# Altium schematic symbol library InkJetFin Symbol Lib.SchLib: 15 symbols
Pins are listed as number, name and electrical type; pins without a type are passive.

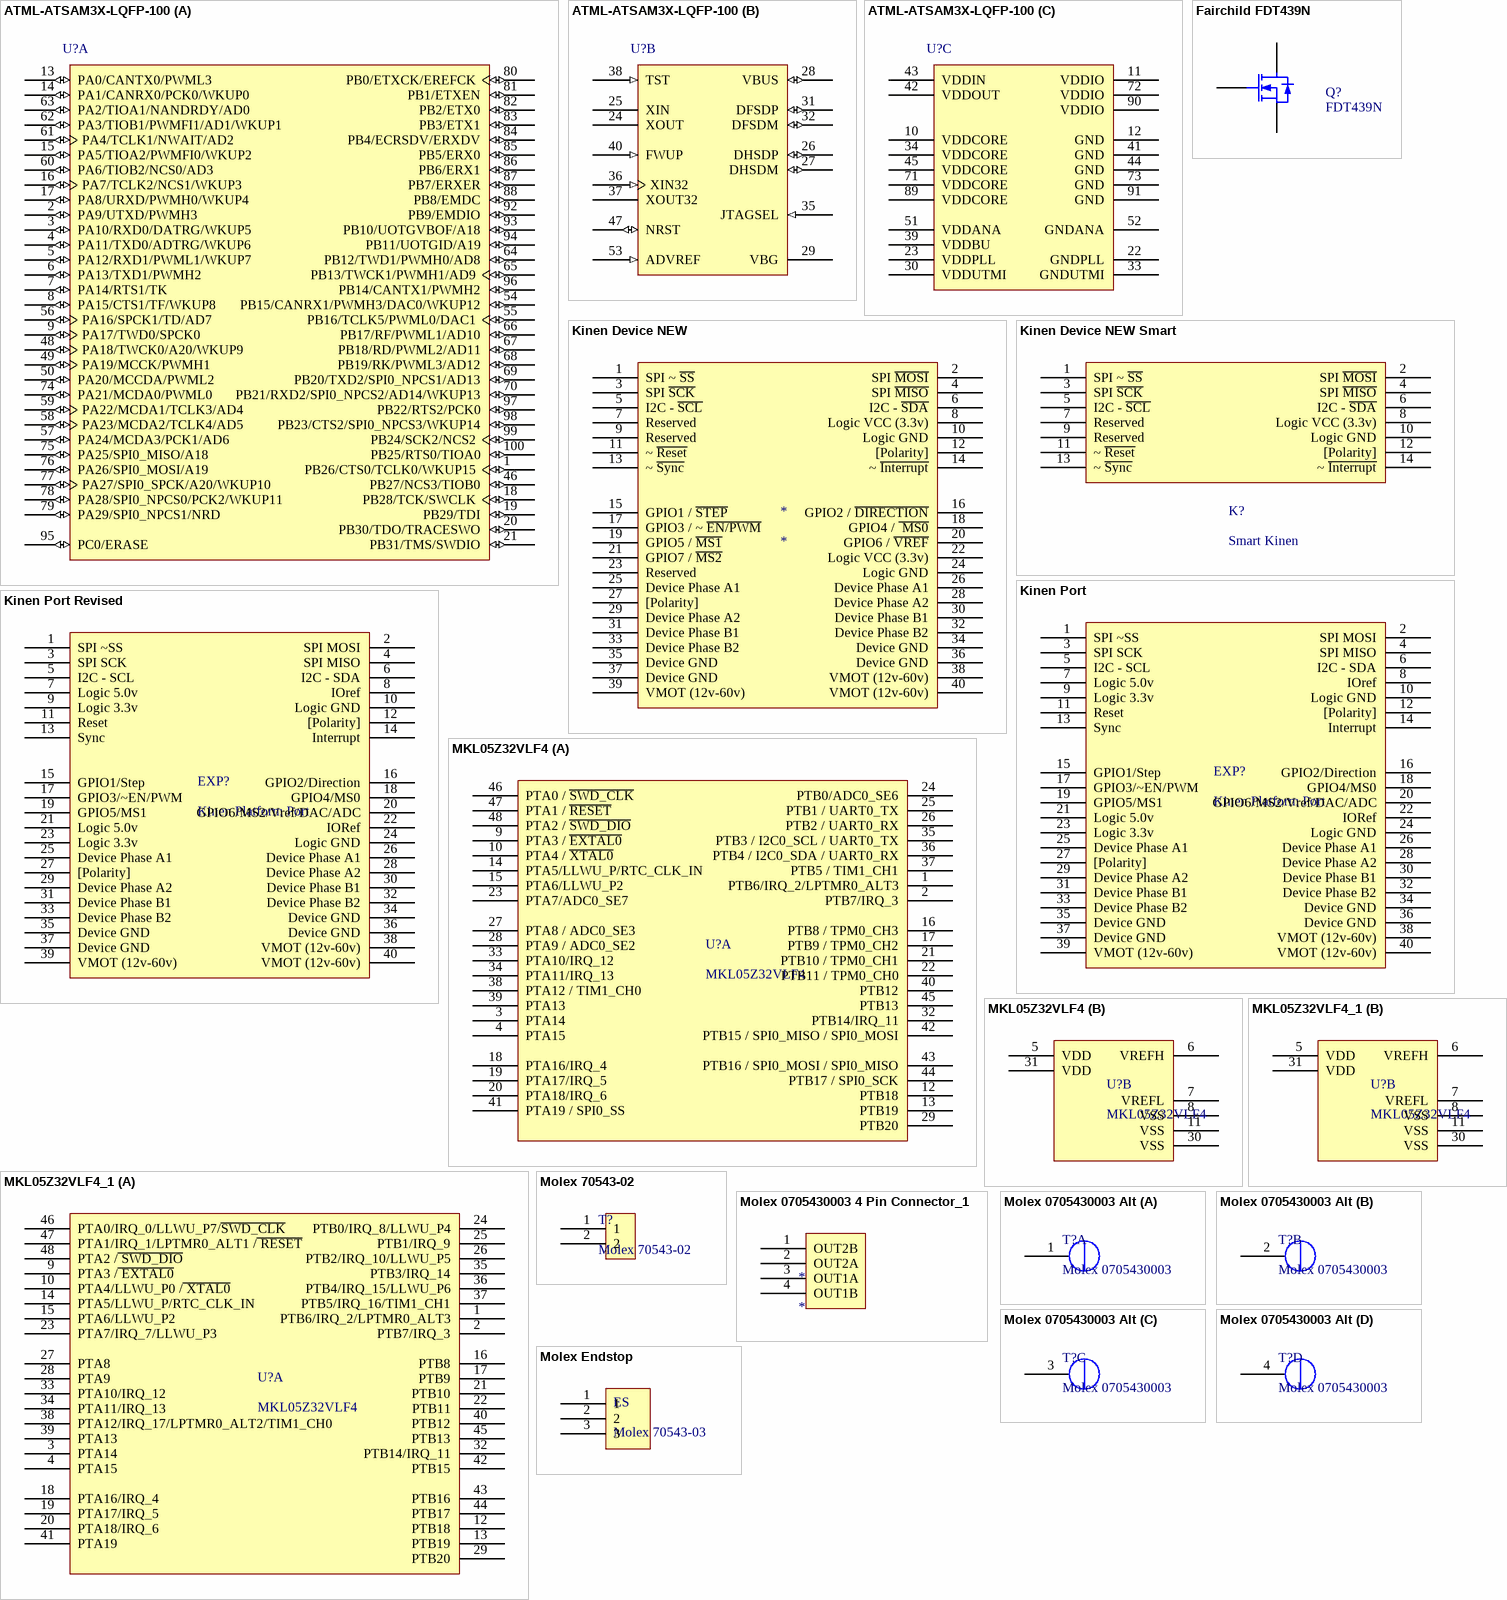
[diagram p0: symbols ATML-ATSAM3X-LQFP-100 to Molex Endstop]

## ATML-ATSAM3X-LQFP-100
designator U?
footprint LQFP100_L (Thin QFP, 100-Leads, Body 14x14mm, Pitch 0.5mm, IPC High Density)
footprint LQFP100_M (Thin QFP, 100-Leads, Body 14x14mm, Pitch 0.5mm, IPC Low Density)
footprint LQFP100_N (Thin QFP, 100-Leads, Body 14x14mm, Pitch 0.5mm, IPC Medium Density)
part A pins: 1 PB26/CTS0/TCLK0/WKUP15 (io), 2 PA9/UTXD/PWMH3 (io), 3 PA10/RXD0/DATRG/WKUP5 (io), 4 PA11/TXD0/ADTRG/WKUP6 (io), 5 PA12/RXD1/PWML1/WKUP7 (io), 6 PA13/TXD1/PWMH2 (io), 7 PA14/RTS1/TK (io), 8 PA15/CTS1/TF/WKUP8 (io), 9 PA17/TWD0/SPCK0 (io), 13 PA0/CANTX0/PWML3 (io), 14 PA1/CANRX0/PCK0/WKUP0 (io), 15 PA5/TIOA2/PWMFI0/WKUP2 (io), 16 PA7/TCLK2/NCS1/WKUP3 (io), 17 PA8/URXD/PWMH0/WKUP4 (io), 18 PB28/TCK/SWCLK (io), 19 PB29/TDI (io), 20 PB30/TDO/TRACESWO (io), 21 PB31/TMS/SWDIO (io), 46 PB27/NCS3/TIOB0 (io), 48 PA18/TWCK0/A20/WKUP9 (io), 49 PA19/MCCK/PWMH1 (io), 50 PA20/MCCDA/PWML2 (io), 54 PB15/CANRX1/PWMH3/DAC0/WKUP12 (io), 55 PB16/TCLK5/PWML0/DAC1 (io), 56 PA16/SPCK1/TD/AD7 (io), 57 PA24/MCDA3/PCK1/AD6 (io), 58 PA23/MCDA2/TCLK4/AD5 (io), 59 PA22/MCDA1/TCLK3/AD4 (io), 60 PA6/TIOB2/NCS0/AD3 (io), 61 PA4/TCLK1/NWAIT/AD2 (io), 62 PA3/TIOB1/PWMFI1/AD1/WKUP1 (io), 63 PA2/TIOA1/NANDRDY/AD0 (io), 64 PB12/TWD1/PWMH0/AD8 (io), 65 PB13/TWCK1/PWMH1/AD9 (io), 66 PB17/RF/PWML1/AD10 (io), 67 PB18/RD/PWML2/AD11 (io), 68 PB19/RK/PWML3/AD12 (io), 69 PB20/TXD2/SPI0_NPCS1/AD13 (io), 70 PB21/RXD2/SPI0_NPCS2/AD14/WKUP13 (io), 74 PA21/MCDA0/PWML0 (io), 75 PA25/SPI0_MISO/A18 (io), 76 PA26/SPI0_MOSI/A19 (io), 77 PA27/SPI0_SPCK/A20/WKUP10 (io), 78 PA28/SPI0_NPCS0/PCK2/WKUP11 (io), 79 PA29/SPI0_NPCS1/NRD (io), 80 PB0/ETXCK/EREFCK (io), 81 PB1/ETXEN (io), 82 PB2/ETX0 (io), 83 PB3/ETX1 (io), 84 PB4/ECRSDV/ERXDV (io), 85 PB5/ERX0 (io), 86 PB6/ERX1 (io), 87 PB7/ERXER (io), 88 PB8/EMDC (io), 92 PB9/EMDIO (io), 93 PB10/UOTGVBOF/A18 (io), 94 PB11/UOTGID/A19 (io), 95 PC0/ERASE (io), 96 PB14/CANTX1/PWMH2 (io), 97 PB22/RTS2/PCK0 (io), 98 PB23/CTS2/SPI0_NPCS3/WKUP14 (io), 99 PB24/SCK2/NCS2 (io), 100 PB25/RTS0/TIOA0 (io)
part B pins: 24 XOUT "Main Oscillator Output", 25 XIN "Main Oscillator Input", 26 DHSDP (io) "USB High Speed Data +", 27 DHSDM (io) "USB High Speed Data -", 28 VBUS (io) "USB Bus Power Measurement Mini Host/Device", 29 VBG "Bias Voltage Reference", 31 DFSDP (io) "USB Full Speed Data +", 32 DFSDM (io) "USB Full Speed Data -", 35 JTAGSEL (in) "JTAG Selection", 36 XIN32 (in) "Slow Clock Oscillator Input", 37 XOUT32 "Slow Clock Oscillator Output", 38 TST (in) "Test Mode Select", 40 FWUP (in) "Force Wake-up Input", 47 NRST (io) "Microcontroller Reset", 53 ADVREF (in) "ADC and DAC Reference"
part C pins: 10 VDDCORE (power) "Core Chip Power Supply", 11 VDDIO (power) "Peripherals I/O Lines Power Supply", 12 GND (power) "Ground", 22 GNDPLL (power) "PLL A, UPLL and Oscillator Ground", 23 VDDPLL (power) "PLL A, UPLL and Oscillator Power Supply", 30 VDDUTMI (power) "USB UTMI+ Interface Power Supply", 33 GNDUTMI (power) "USB UTMI+ Interface Ground", 34 VDDCORE (power) "Core Chip Power Supply", 39 VDDBU (power) "Backup I/O Lines Power Supply", 41 GND (power) "Ground", 42 VDDOUT (power) "Voltage Regulator Output", 43 VDDIN (power) "Voltage Regulator, ADC and DAC Power Supply", 44 GND (power) "Ground", 45 VDDCORE (power) "Core Chip Power Supply", 51 VDDANA (power) "ADC and DAC Analog Power Supply", 52 GNDANA (power) "ADC and DAC Analog Ground", 71 VDDCORE (power) "Core Chip Power Supply", 72 VDDIO (power) "Peripherals I/O Lines Power Supply", 73 GND (power) "Ground", 89 VDDCORE (power) "Core Chip Power Supply", 90 VDDIO (power) "Peripherals I/O Lines Power Supply", 91 GND (power) "Ground"

## Fairchild FDT439N
designator Q?, comment FDT439N
N-Channel MOSFET; Published: 8-Jun-2000; LatestRevisionDate: 17-Jul-2002; LatestRevisionNote: Re-released for DXP Platform.; PackageVersion: 1995/1996; PackageReference: E3; Publisher: Altium Limited; PackageDescription: TO, Flat Index; 3 In-Line, Axial Leads; Body Dia. 4.6mm; Lead Dia. 0.5 mm (max)
simulation model NMOS (MOSFET-N)
footprint Fairchild FDT439N (SOT223, 4-Leads, Body 6.60x7.08mm (avg), Pitch 2.30mm, IPC Medium Density)
pins: 1 G, 2 D, 3 S, 4 D hidden to 2

## Kinen Device NEW
designator *
footprint Kinen Port - Device (Synthetos Kinen Expansion Port Socket)
pins: 1 SPI ~ ~{SS}, 2 SPI ~{MOSI}, 3 SPI ~{SCK}, 4 SPI ~{MISO}, 5 I2C - ~{SCL}, 6 I2C - ~{SDA}, 7 Reserved, 8 Logic VCC (3.3v), 9 Reserved, 10 Logic GND, 11 ~ ~{Reset}, 12 [Polarity], 13 ~ ~{Sync}, 14 ~ ~{Interrupt}, 15 GPIO1 / ~{STEP}, 16 GPIO2 / ~{DIRECTION}, 17 GPIO3 / ~ ~{EN/PWM}, 18 GPIO4 / ~{ MS0}, 19 GPIO5 / ~{MS1}, 20 GPIO6 / ~{VREF}, 21 GPIO7 / ~{MS2}, 22 Logic VCC (3.3v), 23 Reserved, 24 Logic GND, 25 Device Phase A1, 26 Device Phase A1, 27 [Polarity], 28 Device Phase A2, 29 Device Phase A2, 30 Device Phase B1, 31 Device Phase B1, 32 Device Phase B2, 33 Device Phase B2, 34 Device GND, 35 Device GND, 36 Device GND, 37 Device GND, 38 VMOT (12v-60v), 39 VMOT (12v-60v), 40 VMOT (12v-60v)

## Kinen Device NEW Smart
designator K?, comment Smart Kinen
footprint Kinen Port - Device (Synthetos Kinen Expansion Port Socket)
pins: 1 SPI ~ ~{SS}, 2 SPI ~{MOSI}, 3 SPI ~{SCK}, 4 SPI ~{MISO}, 5 I2C - ~{SCL}, 6 I2C - ~{SDA}, 7 Reserved, 8 Logic VCC (3.3v), 9 Reserved, 10 Logic GND, 11 ~ ~{Reset}, 12 [Polarity], 13 ~ ~{Sync}, 14 ~ ~{Interrupt}

## Kinen Port
designator EXP?, comment Kinen Platform Port
footprint Kinen Port (Synthetos Kinen Expansion Port Socket)
pins: 1 SPI ~SS, 2 SPI MOSI, 3 SPI SCK, 4 SPI MISO, 5 I2C - SCL, 6 I2C - SDA, 7 Logic 5.0v, 8 IOref, 9 Logic 3.3v, 10 Logic GND, 11 Reset, 12 [Polarity], 13 Sync, 14 Interrupt, 15 GPIO1/Step, 16 GPIO2/Direction, 17 GPIO3/~EN/PWM, 18 GPIO4/MS0, 19 GPIO5/MS1, 20 GPIO6/MS2/Vref/DAC/ADC, 21 Logic 5.0v, 22 IORef, 23 Logic 3.3v, 24 Logic GND, 25 Device Phase A1, 26 Device Phase A1, 27 [Polarity], 28 Device Phase A2, 29 Device Phase A2, 30 Device Phase B1, 31 Device Phase B1, 32 Device Phase B2, 33 Device Phase B2, 34 Device GND, 35 Device GND, 36 Device GND, 37 Device GND, 38 VMOT (12v-60v), 39 VMOT (12v-60v), 40 VMOT (12v-60v)

## Kinen Port Revised
designator EXP?, comment Kinen Platform Port
footprint Kinen Port (Synthetos Kinen Expansion Port Socket)
pins: 1 SPI ~SS, 2 SPI MOSI, 3 SPI SCK, 4 SPI MISO, 5 I2C - SCL, 6 I2C - SDA, 7 Logic 5.0v, 8 IOref, 9 Logic 3.3v, 10 Logic GND, 11 Reset, 12 [Polarity], 13 Sync, 14 Interrupt, 15 GPIO1/Step, 16 GPIO2/Direction, 17 GPIO3/~EN/PWM, 18 GPIO4/MS0, 19 GPIO5/MS1, 20 GPIO6/MS2/Vref/DAC/ADC, 21 Logic 5.0v, 22 IORef, 23 Logic 3.3v, 24 Logic GND, 25 Device Phase A1, 26 Device Phase A1, 27 [Polarity], 28 Device Phase A2, 29 Device Phase A2, 30 Device Phase B1, 31 Device Phase B1, 32 Device Phase B2, 33 Device Phase B2, 34 Device GND, 35 Device GND, 36 Device GND, 37 Device GND, 38 VMOT (12v-60v), 39 VMOT (12v-60v), 40 VMOT (12v-60v)

## MKL05Z32VLF4
designator U?
ARM Cortex M0+
footprint MKL05Z32VLF4 (TSQFP, 48-Leads, Body 7.00x7.00mm, Pitch 0.50mm, IPC Medium Density)
part A pins: 1 PTB6/IRQ_2/LPTMR0_ALT3, 2 PTB7/IRQ_3, 3 PTA14, 4 PTA15, 9 PTA3 / ~{EXTAL0}, 10 PTA4 / ~{XTAL0}, 12 PTB18, 13 PTB19, 14 PTA5/LLWU_P/RTC_CLK_IN, 15 PTA6/LLWU_P2, 16 PTB8 / TPM0_CH3, 17 PTB9 / TPM0_CH2, 18 PTA16/IRQ_4, 19 PTA17/IRQ_5, 20 PTA18/IRQ_6, 21 PTB10 / TPM0_CH1, 22 PTB11 / TPM0_CH0, 23 PTA7/ADC0_SE7, 24 PTB0/ADC0_SE6, 25 PTB1 / UART0_TX, 26 PTB2 / UART0_RX, 27 PTA8 / ADC0_SE3, 28 PTA9 / ADC0_SE2, 29 PTB20, 32 PTB14/IRQ_11, 33 PTA10/IRQ_12, 34 PTA11/IRQ_13, 35 PTB3 / I2C0_SCL / UART0_TX, 36 PTB4 / I2C0_SDA / UART0_RX, 37 PTB5 / TIM1_CH1, 38 PTA12 / TIM1_CH0, 39 PTA13, 40 PTB12, 41 PTA19 / SPI0_SS, 42 PTB15 / SPI0_MISO / SPI0_MOSI, 43 PTB16 / SPI0_MOSI / SPI0_MISO, 44 PTB17 / SPI0_SCK, 45 PTB13, 46 PTA0 / ~{SWD_CLK}, 47 PTA1 / ~{RESET}, 48 PTA2 / ~{SWD_DIO}
part B pins: 5 VDD, 6 VREFH, 7 VREFL, 8 VSS, 11 VSS, 30 VSS, 31 VDD

## MKL05Z32VLF4_1
designator U?, comment MKL05Z32VLF4
ARM Cortex M0+
footprint MKL05Z32VLF4 (TSQFP, 48-Leads, Body 7.00x7.00mm, Pitch 0.50mm, IPC Medium Density)
part A pins: 1 PTB6/IRQ_2/LPTMR0_ALT3, 2 PTB7/IRQ_3, 3 PTA14, 4 PTA15, 9 PTA3 /~{ EXTAL0}, 10 PTA4/LLWU_P0 /~{ XTAL0}, 12 PTB18, 13 PTB19, 14 PTA5/LLWU_P/RTC_CLK_IN, 15 PTA6/LLWU_P2, 16 PTB8, 17 PTB9, 18 PTA16/IRQ_4, 19 PTA17/IRQ_5, 20 PTA18/IRQ_6, 21 PTB10, 22 PTB11, 23 PTA7/IRQ_7/LLWU_P3, 24 PTB0/IRQ_8/LLWU_P4, 25 PTB1/IRQ_9, 26 PTB2/IRQ_10/LLWU_P5, 27 PTA8, 28 PTA9, 29 PTB20, 32 PTB14/IRQ_11, 33 PTA10/IRQ_12, 34 PTA11/IRQ_13, 35 PTB3/IRQ_14, 36 PTB4/IRQ_15/LLWU_P6, 37 PTB5/IRQ_16/TIM1_CH1, 38 PTA12/IRQ_17/LPTMR0_ALT2/TIM1_CH0, 39 PTA13, 40 PTB12, 41 PTA19, 42 PTB15, 43 PTB16, 44 PTB17, 45 PTB13, 46 PTA0/IRQ_0/LLWU_P7/~{SWD_CLK}, 47 PTA1/IRQ_1/LPTMR0_ALT1 /~{ RESET}, 48 PTA2 /~{ SWD_DIO}
part B pins: 5 VDD, 6 VREFH, 7 VREFL, 8 VSS, 11 VSS, 30 VSS, 31 VDD

## Molex 70543-02
designator T?
footprint Molex 70543-02
pins: 1, 2

## Molex 0705430003 4 Pin Connector_1
designator *
footprint Molex 0705430003 (4 pin connector)
pins: 1 OUT2B, 2 OUT2A, 3 OUT1A, 4 OUT1B

## Molex 0705430003 Alt
designator T?, comment Molex 0705430003
Molex 4 Pin Clip Connector
footprint Molex 0705430003 (4 pin connector)
part A pins: 1 OUT2B
part B pins: 2 OUT2A
part C pins: 3 OUT1A
part D pins: 4 OUT1B

## Molex Endstop
designator ES, comment Molex 70543-03
footprint MOLEX Endstop
pins: 1, 2, 3

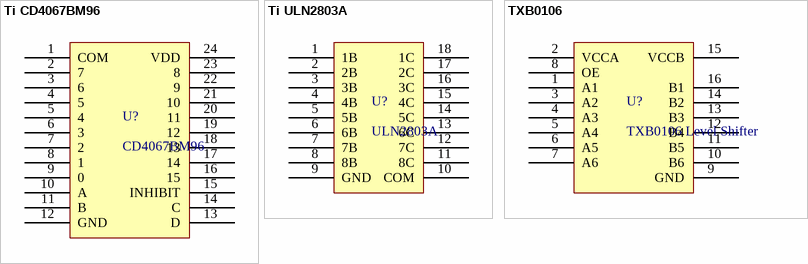
[diagram p1: symbols Ti CD4067BM96 to TXB0106]

## Ti CD4067BM96
designator U?, comment CD4067BM96
footprint TSOP65P640X120-24N (TSOP, 24-Leads, Body 7.80x4.40mm, Pitch 0.65mm, IPC Medium Density)
pins: 1 COM, 2 7, 3 6, 4 5, 5 4, 6 3, 7 2, 8 1, 9 0, 10 A, 11 B, 12 GND, 13 D, 14 C, 15 INHIBIT, 16 15, 17 14, 18 13, 19 12, 20 11, 21 10, 22 9, 23 8, 24 VDD

## Ti ULN2803A
designator U?, comment ULN2803A
footprint SOIC127P1030X265-18N (SOIC, 18-Leads, Body 11.55x7.50mm, Pitch 1.27mm, IPC Medium Density)
pins: 1 1B, 2 2B, 3 3B, 4 4B, 5 5B, 6 6B, 7 7B, 8 8B, 9 GND, 10 COM, 11 8C, 12 7C, 13 6C, 14 5C, 15 4C, 16 3C, 17 2C, 18 1C

## TXB0106
designator U?, comment TXB0106 Level Shifter
TXB0106 - Bidriectional Opendrain/pushpull level shift
footprint TSOP65P640X120-16N (TSOP, 16-Leads, Body 5.00x4.40mm, Pitch 0.65mm, IPC Medium Density)
pins: 1 A1, 2 VCCA, 3 A2, 4 A3, 5 A4, 6 A5, 7 A6, 8 OE, 9 GND, 10 B6, 11 B5, 12 B4, 13 B3, 14 B2, 15 VCCB, 16 B1